# EAGLE library part 74099-15 (library con-molex-c-grid)
C-Grid SL
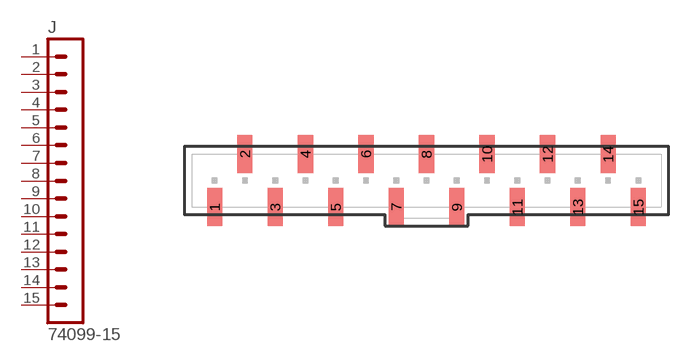
[diagram p49: symbol with the pads of 74099-15; footprint 74099-15]

Designator prefix J

## 74099-15  [74099-15]
1  1  pas
2  2  pas
3  3  pas
4  4  pas
5  5  pas
6  6  pas
7  7  pas
8  8  pas
9  9  pas
10  10  pas
11  11  pas
12  12  pas
13  13  pas
14  14  pas
15  15  pas

## Footprint 74099-15 (pad centres in mm)
C-Grid SL vertical, SMD
smd 1.27 x 3.175: 1 -17.78,-2.223; 2 -15.24,2.223; 3 -12.7,-2.223; 4 -10.16,2.223; 5 -7.62,-2.223; 6 -5.08,2.223; 7 -2.54,-2.223; 8 0,2.223; 9 2.54,-2.223; 10 5.08,2.223; 11 7.62,-2.223; 12 10.16,2.223; 13 12.7,-2.223; 14 15.24,2.223; 15 17.78,-2.223